# EAGLE library part EA2_SERIES_NEC (library NEC EA2 Series Relay)
Created by Rifaa Miniature Signal Relay The EA2 series has reduced package size and power consumption to other NEC Conventional relays. Furthermore, it complies with 1500 V surge-voltage requirement of FCC part 68 by the unique structure and the efficient magnetic circuit Features Low power consumption Compact and light weight 2 form c contact arrangement Low magnetic arrangement Breakdown voltage : 1000 Vac (surge voltage 1500 V), FCC Part 68 compliant UL recognized (E73266), CAS certified (LR46266) Part no. system EA2 ? 3 S NU Nil : Standard type NU : UL recognized, CSA certified type NJ : Trimmed leads type * NP : Silver-palladium alloy contact (with gold alloy overlay) * Latch type Nil : Non-latch type (standard type) S : Single coil latch type T : Double coil latch type Nominal coil voltage 3, 4.5, 5, 6, 9, 12, 24 Volts EA2 series Max Ratings Power 30W resistive Voltage 220Vdc or 250Vac Switch current 1A Cont. current 2A Library made by RIFAA-ATH RAZEI ViaLogic Pvt Ltd +960 7774297
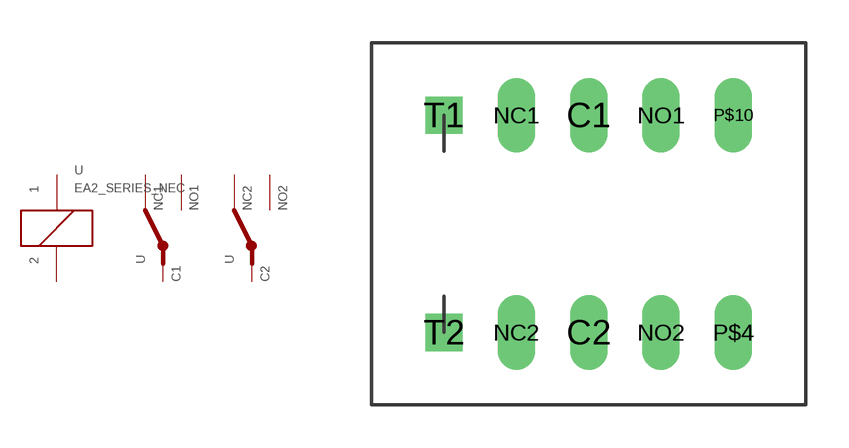
[diagram p0: symbol with the pads of EA2-5; footprint EA2-5]

Designator prefix -

## EA2_SERIES_NEC  [EA2-5]
C1  P$3  pas
C2  P$8  pas
NC1  P$4  pas
NC2  P$6  pas
NO1  P$5  pas
NO2  P$7  pas
T1  P$1  pas
T2  P$2  pas

## Footprint EA2-5 (pad centres in mm)
Package made by Rifaa-ath Razei
drill 0.8 long: C1 0,3.81; C2 0,-3.81; NC1 -2.54,3.81; NC2 -2.54,-3.81; NO1 2.54,3.81; NO2 2.54,-3.81; P$4 5.08,-3.81; P$10 5.08,3.81
drill 0.8 square: T1 -5.08,3.81; T2 -5.08,-3.81